# Altium schematic symbol library BSS138.Schlib: 1 symbol
Pins are listed as number, name and electrical type; pins without a type are passive.

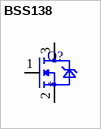
[diagram p0: symbol BSS138]

## BSS138
designator Q?
FET SM NCH 50V 220mA SOT23-3L
pins: 1, 2, 3